# Altium schematic symbol library ST1L05APU33R.SchLib: 1 symbol
Pins are listed as number, name and electrical type; pins without a type are passive.

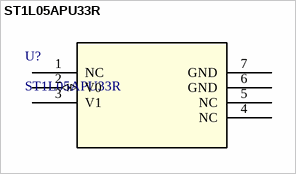
[diagram p0: symbol ST1L05APU33R]

## ST1L05APU33R
designator U?
Very low quiescent BiCMOS voltage regulator; Manufacturer_Name: STMicroelectronics; Copyright: Copyright (C) 2025 Ultra Librarian. All rights reserved.; Manufacturer_Part_Number: ST1L05APU33R; RefDes: RefDes; Type: Type
footprint DFN_5APU33R_STM
pins: 1 NC, 2 V0 (io), 3 V1, 4 NC, 5 NC, 6 GND (power), 7 GND (power)